# Altium footprint library Device.PcbLib: 66 footprints (part 5 of 5)
Each footprint in its own frame and in the unit in brackets; x right, y up, seen from the top. Pads: shape width x height; smd on the part's side, far side on the other; paste and mask are expansions set on the pad; w line width, h text height; cw(c..) or ccw(c..) is an arc to the next point about the centre after c.
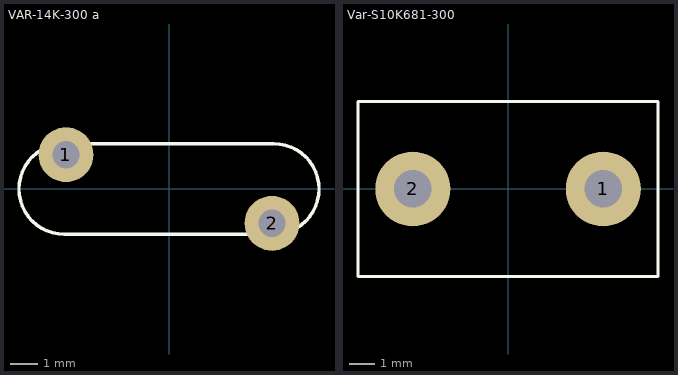
[diagram p4: the footprints below, top view; thin cyan lines are the x and y axes]

## VAR-14K-300 a [mm]
pads (2):
  round 2 hole 1: 1(-3.75,1.25) 2(3.75,-1.25)
Top Overlay:
  lines w0.127: -3.81,-1.651 cw(c-3.81,0) -3.81,1.651 3.81,1.651 cw(c3.81,0) 3.81,-1.651 -3.81,-1.651
3D body: height 20.5, standoff -2.5, extent -8.499,-2.8 8.495,2.8

## Var-S10K681-300 [mm]
pads (2):
  round 3 hole 1.5: 1(3.81,0) 2(-3.81,0)
Top Overlay:
  lines w0.127: -6,-3.5 -6,3.5 6,3.5 6,-3.5 -6,-3.5
3D body: height 12.5, standoff -2.5, extent -6,-3.5 6,3.5